# EAGLE library part TLC5952 (library led-stuff)
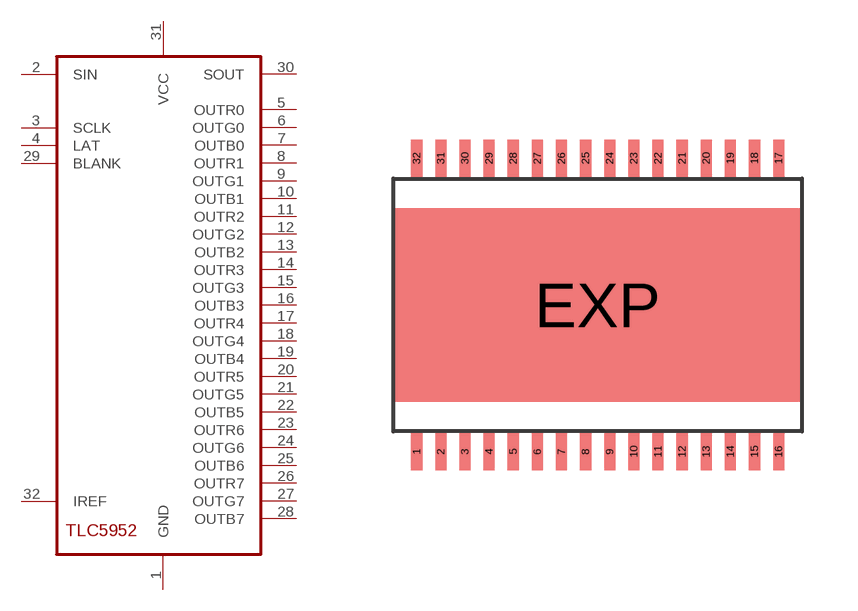
[diagram p11: symbol with the pads of HTSSOP32DAP; footprint HTSSOP32DAP]

Designator prefix -

## TLC5952  [HTSSOP32DAP]
1  GND  pwr
2  SIN  in
3  SCLK  in
4  LAT  in
5  OUTR0  out
6  OUTG0  out
7  OUTB0  out
8  OUTR1  out
9  OUTG1  out
10  OUTB1  out
11  OUTR2  out
12  OUTG2  out
13  OUTB2  out
14  OUTR3  out
15  OUTG3  out
16  OUTB3  out
17  OUTR4  out
18  OUTG4  out
19  OUTB4  out
20  OUTR5  out
21  OUTG5  out
22  OUTB5  out
23  OUTR6  out
24  OUTG6  out
25  OUTB6  out
26  OUTR7  out
27  OUTG7  out
28  OUTB7  out
29  BLANK
30  SOUT  out
31  VCC  pwr
32  IREF  out

## Footprint HTSSOP32DAP (pad centres in mm)
PowerPAD™ PLASTIC SMALL-OUTLINE PACKAGE DAP (R-PDSO-G**) Source: http://focus.ti.com/lit/ml/mpds029b/mpds029b.pdf / slma002.pdf
smd 0.3 x 1: 1 -4.875,-3.95; 2 -4.225,-3.95; 3 -3.575,-3.95; 4 -2.925,-3.95; 5 -2.275,-3.95; 6 -1.625,-3.95; 7 -0.975,-3.95; 8 -0.325,-3.95; 9 0.325,-3.95; 10 0.975,-3.95; 11 1.625,-3.95; 12 2.275,-3.95; 13 2.925,-3.95; 14 3.575,-3.95; 15 4.225,-3.95; 16 4.875,-3.95; 17 4.875,3.95; 18 4.225,3.95; 19 3.575,3.95; 20 2.925,3.95; 21 2.275,3.95; 22 1.625,3.95; 23 0.975,3.95; 24 0.325,3.95; 25 -0.325,3.95; 26 -0.975,3.95; 27 -1.625,3.95; 28 -2.275,3.95; 29 -2.925,3.95; 30 -3.575,3.95; 31 -4.225,3.95; 32 -4.875,3.95
smd 11 x 5.2: EXP 0,0